# Altium schematic symbol library TS3704CDT.SchLib: 1 symbol
Pins are listed as number, name and electrical type; pins without a type are passive.

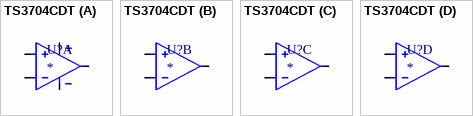
[diagram p0: symbol TS3704CDT]

## TS3704CDT
designator U?
part A pins: 2 OUT_1, 3 V+, 4 -IN_1, 5 +IN_1, 12 V-
part B pins: 1 OUT_2, 6 -IN_2, 7 +IN_2
part C pins: 8 -IN_3, 9 +IN_3, 14 OUT_3
part D pins: 10 -IN_4, 11 +IN_4, 13 OUT_4